# EAGLE library part 746X10_RESISTOR_NETWORK (library custom_parts)
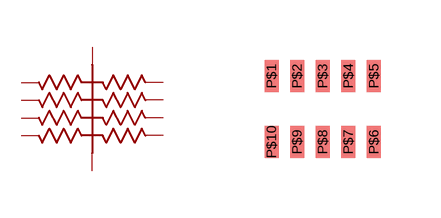
[diagram p12: symbol with the pads of 746X101; footprint 746X101]

Designator prefix -

## 746X10_RESISTOR_NETWORK  [746X101]
P$1  P$1
P$2  P$2
P$3  P$3
P$4  P$4
P$5  P$5
P$6  P$6
P$7  P$7
P$8  P$8
P$9  P$9
P$10  P$10

## Footprint 746X101 (pad centres in mm)
smd 0.35 x 0.8: P$1 -1.28,0.825; P$2 -0.64,0.825; P$3 0,0.825; P$4 0.64,0.825; P$5 1.28,0.825; P$6 1.28,-0.825; P$7 0.64,-0.825; P$8 0,-0.825; P$9 -0.64,-0.825; P$10 -1.28,-0.825